# EAGLE library part STA500 (library Audio-Power-amlifier V.2.0)
STA500 is 30V 3.5A QUAD POWER HALF BRIDGE a monolithic quad half bridge stage in Multipower BCD Technology. The device can be used as dual bridge or reconfigured, by connecting CONFIG pin to Vdd pin, as single bridge with double current capability.
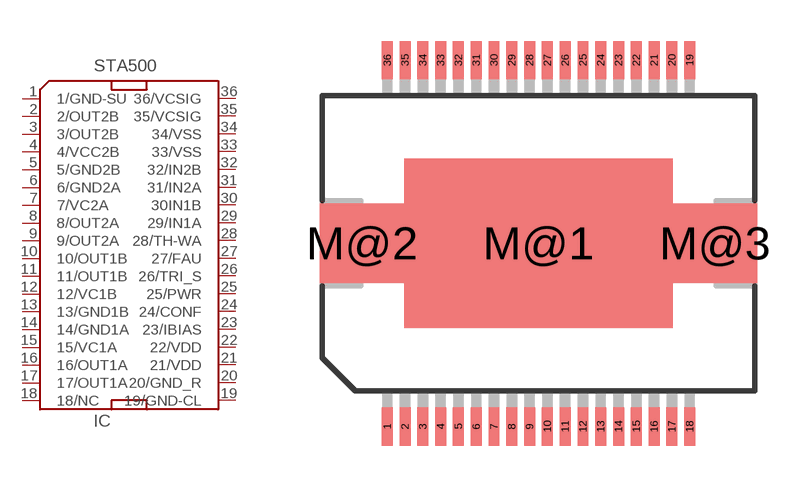
[diagram p187: symbol with the pads of PSO36; footprint PSO36]

Designator prefix IC

## STA500  [PSO36]
1  1/GND-SU  pwr
2  2/OUT2B  out
3  3/OUT2B  out
4  4/VCC2B  pwr
5  5/GND2B  pwr
6  6/GND2A  pwr
7  7/VC2A  pwr
8  8/OUT2A  out
9  9/OUT2A  out
10  10/OUT1B  out
11  11/OUT1B  out
12  12/VC1B  pwr
13  13/GND1B  pwr
14  14/GND1A  pwr
15  15/VC1A  pwr
16  16/OUT1A  out
17  17/OUT1A  out
18  18/NC  nc
19  19/GND-CL  pwr
20  20/GND_R  pwr
21  21/VDD  pwr
22  22/VDD  pwr
23  23/IBIAS
24  24/CONF
25  25/PWR  in
26  26/TRI_S  in
27  27/FAU  oc
28  28/TH-WA  oc
29  29/IN1A  in
30  30IN1B  in
31  31/IN2A  in
32  32/IN2B  in
33  33/VSS  pwr
34  34/VSS  pwr
35  35/VCSIG  pwr
36  36/VCSIG  pwr

## Footprint PSO36 (pad centres in mm)
36 LEADS POWER SMALL OUTLINE PACKAGE Source: http://www.st.com/stonline/books/pdf/docs/9426.pdf
smd 0.4 x 1.4: 1 -5.525,-6.7; 2 -4.875,-6.7; 3 -4.225,-6.7; 4 -3.575,-6.7; 5 -2.925,-6.7; 6 -2.275,-6.7; 7 -1.625,-6.7; 8 -0.975,-6.7; 9 -0.325,-6.7; 10 0.325,-6.7; 11 0.975,-6.7; 12 1.625,-6.7; 13 2.275,-6.7; 14 2.925,-6.7; 15 3.575,-6.7; 16 4.225,-6.7; 17 4.875,-6.7; 18 5.525,-6.7; 19 5.525,6.7; 20 4.875,6.7; 21 4.225,6.7; 22 3.575,6.7; 23 2.925,6.7; 24 2.275,6.7; 25 1.625,6.7; 26 0.975,6.7; 27 0.325,6.7; 28 -0.325,6.7; 29 -0.975,6.7; 30 -1.625,6.7; 31 -2.275,6.7; 32 -2.925,6.7; 33 -3.575,6.7; 34 -4.225,6.7; 35 -4.875,6.7; 36 -5.525,6.7
smd 9.8 x 6.2: M@1 0,0
smd 3.1 x 2.9: M@2 -6.45,0; M@3 6.45,0